# Altium footprint library Footprints.PcbLib: 146 footprints (part 10 of 10)
Each footprint in its own frame and in the unit in brackets; x right, y up, seen from the top. Pads: shape width x height; smd on the part's side, far side on the other; paste and mask are expansions set on the pad; w line width, h text height; cw(c..) or ccw(c..) is an arc to the next point about the centre after c.
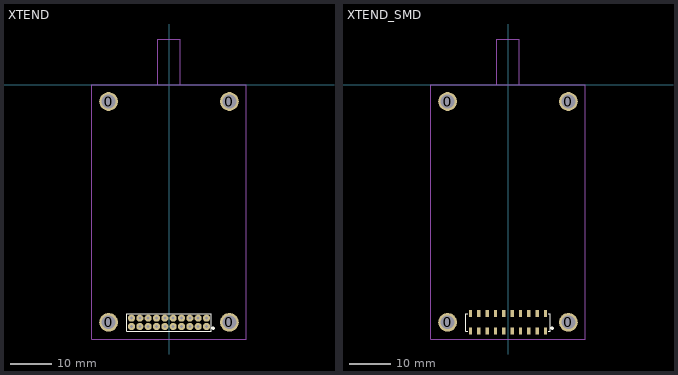
[diagram p9: the footprints below, top view; thin cyan lines are the x and y axes]

## XTEND [mm] "Xtend Radio Transceiver"
height 5
pads (24):
  round 4.5 hole 3.3: 0(-14.5,-57) 0(-14.5,-4) 0(14.5,-57) 0(14.5,-4)
  round 1.7 hole 0.75: 1(9,-58) 2(9,-56) 3(7,-58) 4(7,-56) 5(5,-58) 6(5,-56) 7(3,-58) 8(3,-56) 9(1,-58) 10(1,-56) 11(-1,-58) 12(-1,-56) 13(-3,-58) 14(-3,-56) 15(-5,-58) 16(-5,-56) 17(-7,-58) 18(-7,-56) 19(-9,-58) 20(-9,-56)
Top Overlay:
  circle w0.4: c10.6,-58.4 r0.2
  lines w0.2: -10.1,-59.1 10.1,-59.1 10.1,-54.9 -10.1,-54.9 -10.1,-59.1
Mechanical 1:
  lines w0.2: -2.7,0 -2.7,11 2.7,11 2.7,0 ; -18.5,-61 18.5,-61 18.5,0 -18.5,0 -18.5,-61

## XTEND_SMD [mm] "Xtend Radio Transceiver"
height 5
pads (24):
  round 4.5 hole 3.3: 0(-14.5,-57) 0(-14.5,-4) 0(14.5,-57) 0(14.5,-4)
  rect 0.8x1.6 smd: 1(9,-59.1) 2(9,-54.9) 3(7,-59.1) 4(7,-54.9) 5(5,-59.1) 6(5,-54.9) 7(3,-59.1) 8(3,-54.9) 9(1,-59.1) 10(1,-54.9) 11(-1,-59.1) 12(-1,-54.9) 13(-3,-59.1) 14(-3,-54.9) 15(-5,-59.1) 16(-5,-54.9) 17(-7,-59.1) 18(-7,-54.9) 19(-9,-59.1) 20(-9,-54.9)
Top Overlay:
  circle w0.4: c10.6,-58.4 r0.2
  lines w0.2: -9.7,-59.1 -10.1,-59.1 -10.1,-54.9 -9.7,-54.9 ; 9.7,-59.1 10.1,-59.1 10.1,-54.9 9.7,-54.9
Mechanical 1:
  lines w0.2: -2.7,0 -2.7,11 2.7,11 2.7,0 ; -18.5,-61 18.5,-61 18.5,0 -18.5,0 -18.5,-61